# EAGLE library part MTA10-100 (library AMP_MTA)
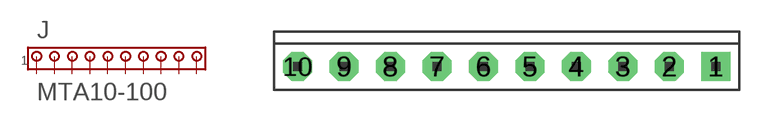
[diagram p4: symbol with the pads of 1X10MTA; footprint 1X10MTA]

Designator prefix J

## MTA10-100  [1X10MTA]
1  1
2  2
3  3
4  4
5  5
6  6
7  7
8  8
9  9
10  10

## Footprint 1X10MTA (pad centres in mm)
drill 1.016 pad 1.575 square: 1 11.43,0
drill 1.016 pad 1.575 octagon: 2 8.89,0; 3 6.35,0; 4 3.81,0; 5 1.27,0; 6 -1.27,0; 7 -3.81,0; 8 -6.35,0; 9 -8.89,0; 10 -11.43,0